# EAGLE library part ESP-WROOM-02 (library esp-wroom-02_akizuki)
WiFi module - ESP-WROOM-02
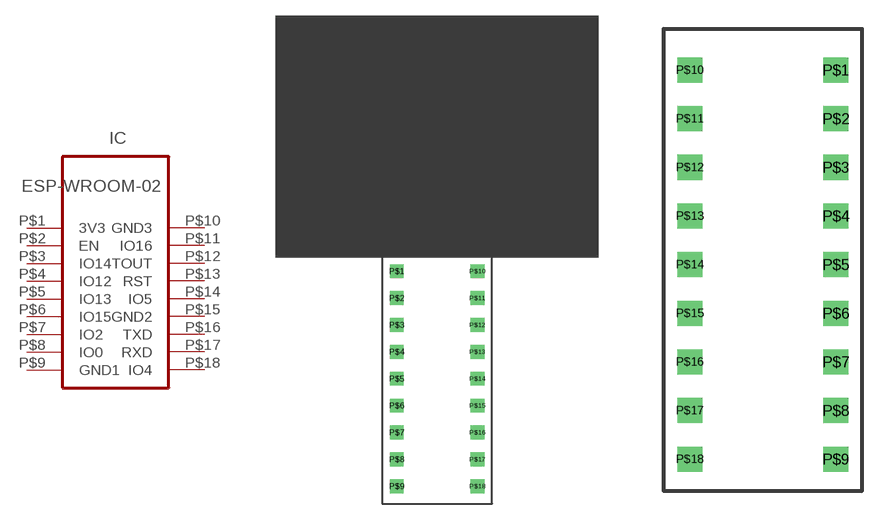
[diagram p0: symbol with the pads of FRONT-FACE; footprints FRONT-FACE, BACK-FACE]

Designator prefix IC

## ESP-WROOM-02FRONT-FACE  [FRONT-FACE]
P$1  3V3  pwr
P$2  EN
P$3  IO14
P$4  IO12
P$5  IO13
P$6  IO15
P$7  IO2
P$8  IO0
P$9  GND1  pwr
P$10  GND3  pwr
P$11  IO16
P$12  TOUT
P$13  RST
P$14  IO5  oc
P$15  GND2  pwr
P$16  TXD
P$17  RXD
P$18  IO4

## ESP-WROOM-02  [BACK-FACE]
Pads as for FRONT-FACE

## Footprint FRONT-FACE (pad centres in mm)
Front Face Top
drill 0.8 square: P$1 -3.81,2.54; P$2 -3.81,0; P$3 -3.81,-2.54; P$4 -3.81,-5.08; P$5 -3.81,-7.62; P$6 -3.81,-10.16; P$7 -3.81,-12.7; P$8 -3.81,-15.24; P$9 -3.81,-17.78; P$10 3.81,2.54; P$11 3.81,0; P$12 3.81,-2.54; P$13 3.81,-5.08; P$14 3.81,-7.62; P$15 3.81,-10.16; P$16 3.81,-12.7; P$17 3.81,-15.24; P$18 3.81,-17.78

## Footprint BACK-FACE (pad centres in mm)
Front Face Top
drill 0.8 square: P$1 3.81,2.54; P$2 3.81,0; P$3 3.81,-2.54; P$4 3.81,-5.08; P$5 3.81,-7.62; P$6 3.81,-10.16; P$7 3.81,-12.7; P$8 3.81,-15.24; P$9 3.81,-17.78; P$10 -3.81,2.54; P$11 -3.81,0; P$12 -3.81,-2.54; P$13 -3.81,-5.08; P$14 -3.81,-7.62; P$15 -3.81,-10.16; P$16 -3.81,-12.7; P$17 -3.81,-15.24; P$18 -3.81,-17.78